# EAGLE library part TPS61032 (library Power > Switching Controllers)
The TPS6103x devices provide a power supply solution for products powered by either a one-cell Li-Ion or Li-polymer, or a two to three-cell alkaline, NiCd or NiMH battery. The converter generates a stable output voltage that is either adjusted by an external resistor divider or fixed internally on the chip. It provides high efficient power conversion and is capable of delivering output currents up to 1 A at 5 V at a supply voltage down to 1.8 V. The implemented boost converter is based on a fixed frequency, pulse width- modulation (PWM) controller using a synchronous rectifier to obtain maximum efficiency. At low load currents the converter enters Power Save mode to maintain a high efficiency over a wide load current range. The Power Save mode can be disabled, forcing the converter to operate at a fixed switching frequency. It can also operate synchronized to an external clock signal that is applied to the SYNC pin. The maximum peak current in the boost switch is limited to a value of 4500 mA.
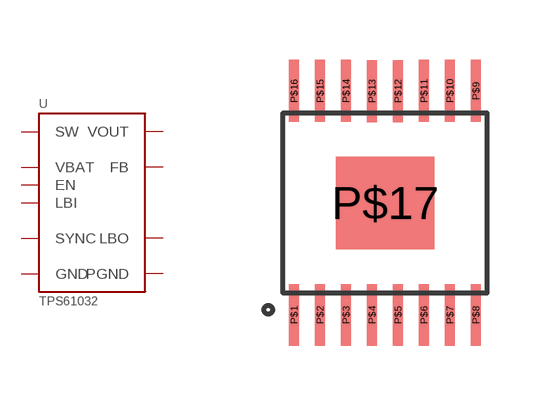
[diagram p5: symbol with the pads of TSSOP(16); footprint TSSOP(16)]

Designator prefix U

## TPS61032  [TSSOP(16)]
P$1  SW
P$2  SW
P$3  PGND
P$4  PGND
P$5  PGND
P$6  VBAT
P$7  LBI
P$8  SYNC
P$9  EN
P$10  LBO
P$11  GND
P$12  FB
P$13  VOUT
P$14  VOUT
P$15  VOUT
P$17  PGND

## Footprint TSSOP(16) (pad centres in mm)
smd 0.25 x 1.55: P$1 -2.275,-2.8; P$2 -1.625,-2.8; P$3 -0.975,-2.8; P$4 -0.325,-2.8; P$5 0.325,-2.8; P$6 0.975,-2.8; P$7 1.625,-2.8; P$8 2.275,-2.8; P$9 2.275,2.8; P$10 1.625,2.8; P$11 0.975,2.8; P$12 0.325,2.796; P$13 -0.325,2.796; P$14 -0.975,2.8; P$15 -1.625,2.8; P$16 -2.275,2.8
smd 2.46 x 2.31: P$17 0,0